# EAGLE library part ADS7809U (library burr-brown)
16-Bit, 100 kSPS ADC
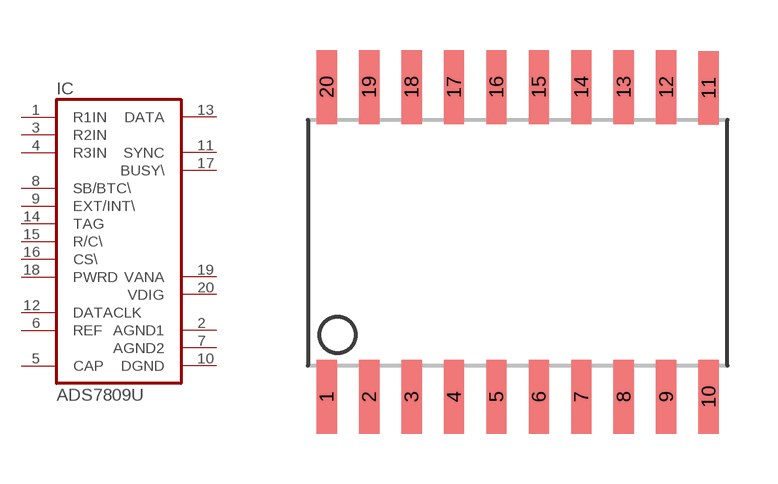
[diagram p50: symbol with the pads of SO-20L; footprint SO-20L]

Designator prefix IC

## ADS7809U  [SO-20L]
1  R1IN  in
2  AGND1  pwr
3  R2IN  in
4  R3IN  in
5  CAP  pas
6  REF
7  AGND2  pwr
8  SB/BTC\  in
9  EXT/INT\  in
10  DGND  pwr
11  SYNC  out
12  DATACLK
13  DATA  out
14  TAG  in
15  R/C\  in
16  CS\  in
17  BUSY\  out
18  PWRD  in
19  VANA  pwr
20  VDIG  pwr

## Footprint SO-20L (pad centres in mm)
smd 0.61 x 2.21: 1 -5.715,-4.636; 2 -4.445,-4.636; 3 -3.175,-4.636; 4 -1.905,-4.636; 5 -0.635,-4.636; 6 0.635,-4.636; 7 1.905,-4.636; 8 3.175,-4.636; 9 4.445,-4.636; 10 5.715,-4.636; 11 5.715,4.61; 12 4.445,4.636; 13 3.175,4.636; 14 1.905,4.636; 15 0.635,4.636; 16 -0.635,4.636; 17 -1.905,4.636; 18 -3.175,4.636; 19 -4.445,4.636; 20 -5.715,4.636